# Altium integrated library diymore_BME280_breakout.IntLib: 1 symbol
Pins are listed as number, name and electrical type; pins without a type are passive.

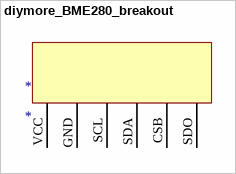
[diagram p0: symbol diymore_BME280_breakout]

## diymore_BME280_breakout
designator *
footprint PCBComponent_1
pins: CSB, GND, SCL, SDA, SDO, VCC